# Altium schematic symbol library 74HC245D.Schlib: 1 symbol
Pins are listed as number, name and electrical type; pins without a type are passive.

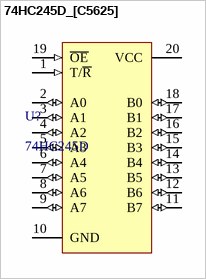
[diagram p0: symbol 74HC245D_[C5625]]

## 74HC245D_[C5625]
designator U?, comment 74HC245D
74系列逻辑芯片
footprint SOIC-20_300mil
pins: 1 T/~{R} (in), 2 A0 (io), 3 A1 (io), 4 A2 (io), 5 A3 (io), 6 A4 (io), 7 A5 (io), 8 A6 (io), 9 A7 (io), 10 GND (power), 11 B7 (io), 12 B6 (io), 13 B5 (io), 14 B4 (io), 15 B3 (io), 16 B2 (io), 17 B1 (io), 18 B0 (io), 19 ~{OE} (in), 20 VCC (power)